# Altium footprint library 20-pin IDC Header.PcbLib: 1 footprints
Each footprint in its own frame and in the unit in brackets; x right, y up, seen from the top. Pads: shape width x height; smd on the part's side, far side on the other; paste and mask are expansions set on the pad; w line width, h text height; cw(c..) or ccw(c..) is an arc to the next point about the centre after c.
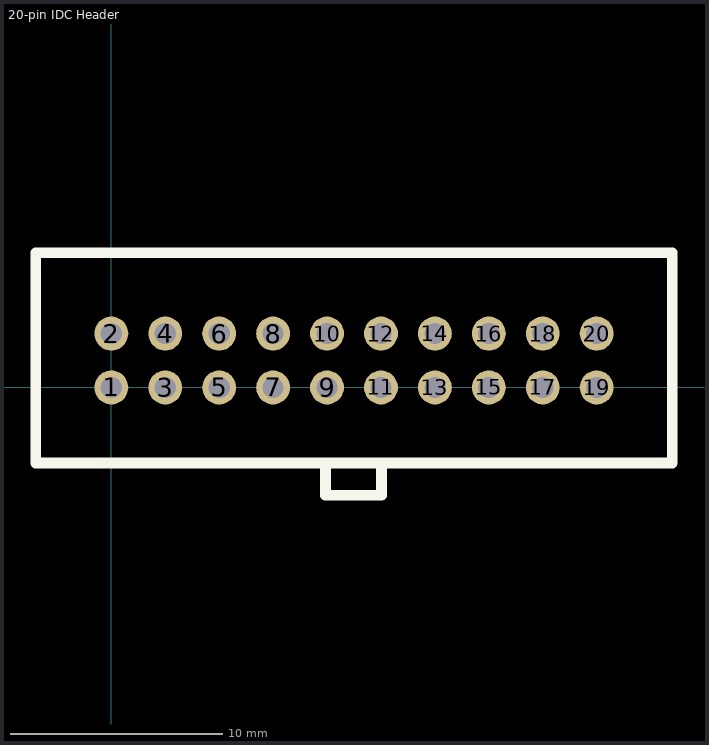
[diagram p0: the footprint, top view; thin cyan lines are the x and y axes]

## 20-pin IDC Header [mm]
height 6
pads (20):
  round 1.6 hole 1: 1(0,0) 2(0,2.54) 3(2.54,0) 4(2.54,2.54) 5(5.08,0) 6(5.08,2.54) 7(7.62,0) 8(7.62,2.54) 9(10.16,0) 10(10.16,2.54) 11(12.7,0) 12(12.7,2.54) 13(15.24,0) 14(15.24,2.54) 15(17.78,0) 16(17.78,2.54) 17(20.32,0) 18(20.32,2.54) 19(22.86,0) 20(22.86,2.54)
Top Overlay:
  lines w0.508: 10.087,-3.556 10.087,-5.08 10.16,-5.08 12.7,-5.08 12.731,-5.08 12.731,-3.556 ; -3.556,-3.556 26.416,-3.556 26.416,6.35 -3.556,6.35 -3.556,-3.556
3D body "20-Pin Shrouded Header (IDC) Straight.stp": height 9.27, standoff -3.9, extent -3.175,-3.275 26.035,6.096